# Altium footprint library QFP.PcbLib: 102 footprints (part 1 of 7)
Each footprint in its own frame and in the unit in brackets; x right, y up, seen from the top. Pads: shape width x height; smd on the part's side, far side on the other; paste and mask are expansions set on the pad; w line width, h text height; cw(c..) or ccw(c..) is an arc to the next point about the centre after c.
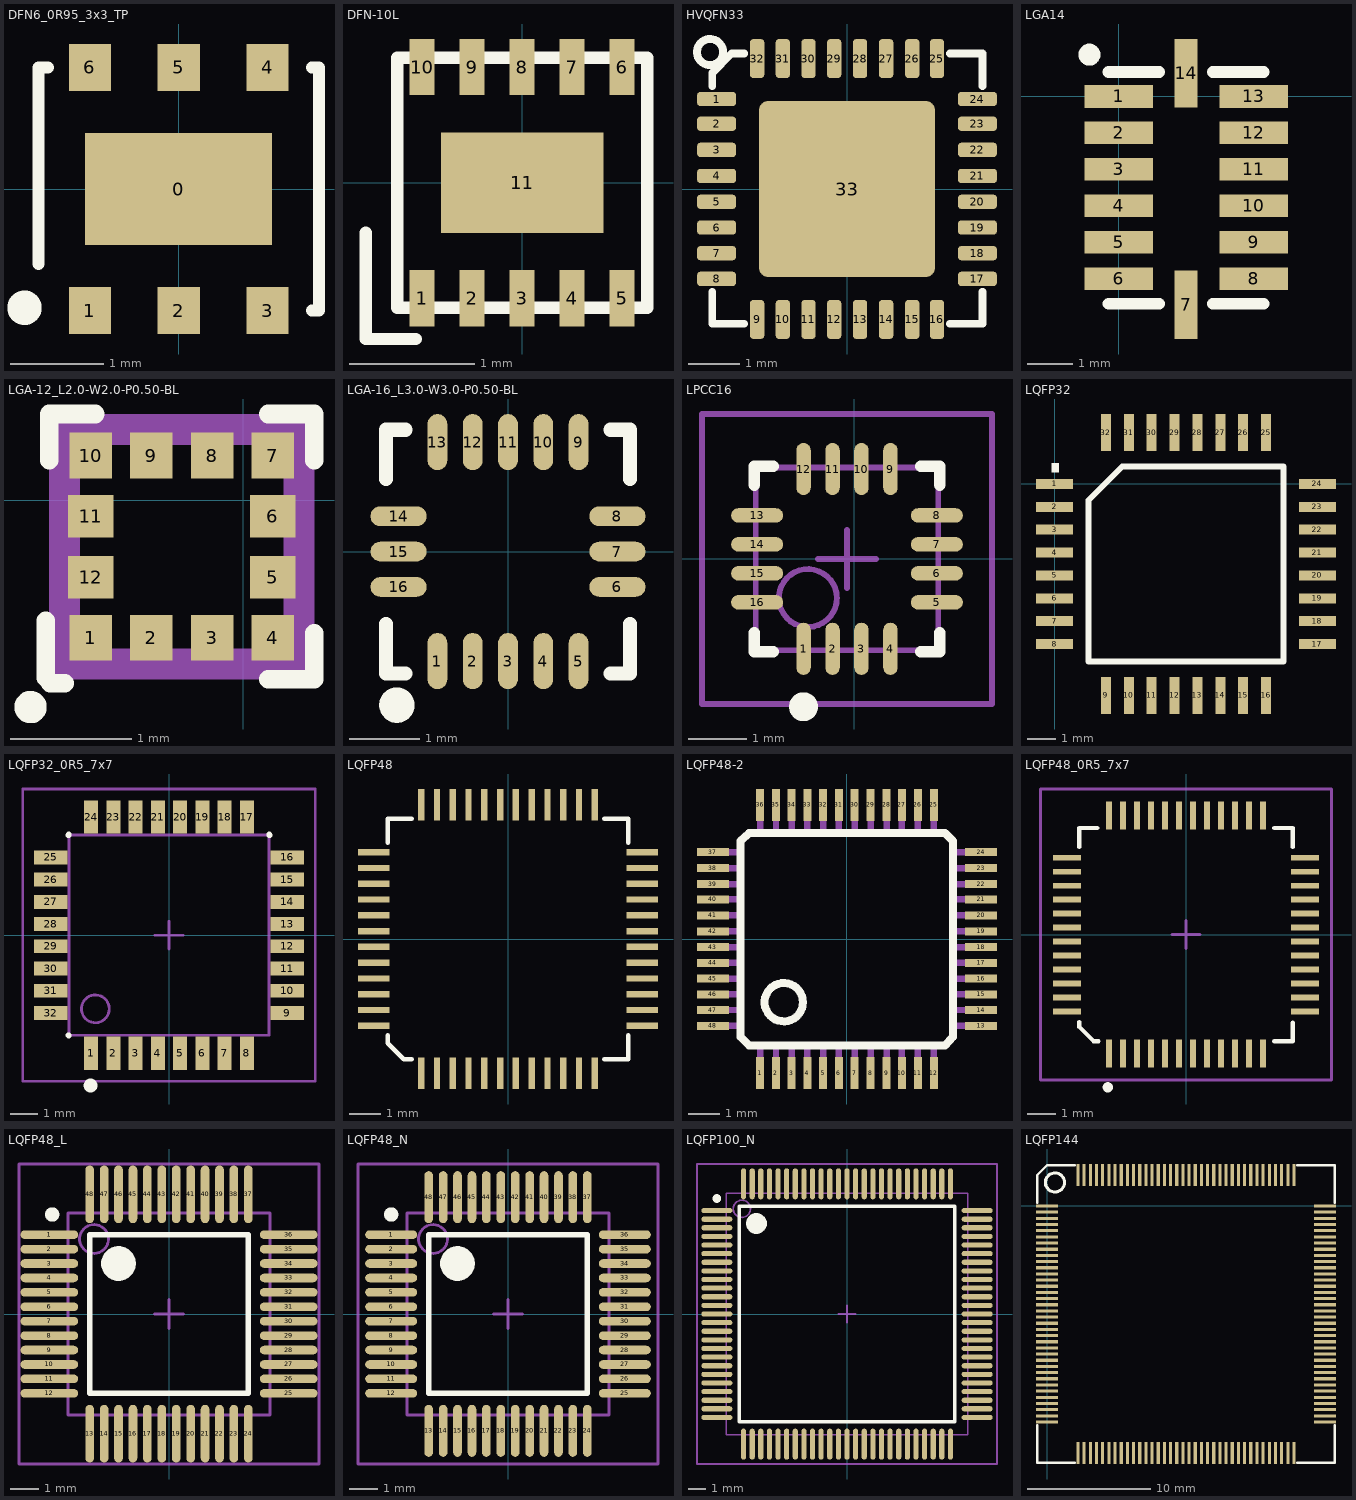
[diagram p0: the footprints below, top view; thin cyan lines are the x and y axes]

## DFN6_0R95_3x3_TP [mm] "500 mA low quiescent current and low noise voltage regulator"
height 1
pads (7):
  rect 2x1.2 smd: 0(0,0)
  rect 0.45x0.5 smd: 1(-0.95,-1.3) 2(0,-1.3) 3(0.95,-1.3) 4(0.95,1.3) 5(0,1.3) 6(-0.95,1.3)
Top Overlay:
  circle w0.25: c-1.649,-1.27 r0.059
  lines w0.127: -1.5,-0.8 -1.5,1.3 -1.397,1.3 ; 1.422,-1.3 1.5,-1.3 1.5,1.3 1.422,1.3
3D body: height 1, standoff 0.05, extent -1.5,-1.5 1.5,1.5

## DFN-10L [mm]
pads (11):
  rect 0.2x0.45 smd: 1(-0.8,-0.925) 2(-0.4,-0.925) 3(0,-0.925) 4(0.4,-0.925) 5(0.8,-0.925) 6(0.8,0.925) 7(0.4,0.925) 8(0,0.925) 9(-0.4,0.925) 10(-0.8,0.925)
  rect 1.3x0.8 smd: 11(0,0)
Top Overlay:
  lines w0.1: -1.25,-0.4 -1.25,-1.25 -0.85,-1.25 ; -1,-1 1,-1 1,1 -1,1 -1,-1

## HVQFN33 [mil] "HVQFN33"
pads (33):
  rrect50% 30x11 smd: 1(-100,69) 2(-100,50) 3(-100,30) 4(-100,10) 5(-100,-9.84) 6(-100,-29.53) 7(-100,-49.21) 8(-100,-68.9) 17(100,-68.9) 18(100,-49.21) 19(100,-29.53) 20(100,-9.84) 21(100,10) 22(100,30) 23(100,50) 24(100,69)
  rrect50% 11x30 smd: 9(-68.9,-100) 10(-49.21,-100) 11(-29.53,-100) 12(-9.84,-100) 13(10,-100) 14(30,-100) 15(50,-100) 16(69,-100) 25(69,100) 26(50,100) 27(30,100) 28(10,100) 29(-9.84,100) 30(-29.53,100) 31(-49.21,100) 32(-68.9,100)
  rrect10% 135x135 smd: 33(0,0)
Top Overlay:
  circle w6: c-105,105 r10
  lines w6: -103.35,-78.74 -103.35,-103.35 -78.74,-103.35 ; -103.35,79 -103.35,89 -88.35,104 -78.74,104 ; 79,-103.35 104,-103.35 104,-78.74 ; 79,104 104,104 104,79
Top Paste:
  rectangle: -15,-15 15,15
  rectangle: -55,25 -25,55
  rectangle: 25,25 55,55
  rectangle: -55,-55 -25,-25
  rectangle: 25,-55 55,-25
Mechanical 2:
Mechanical 4:

## LGA14 [mm]
pads (14):
  rect 1.5x0.5 smd: 1(0,0) 2(0,-0.8) 3(0,-1.6) 4(0,-2.4) 5(0,-3.2) 6(0,-4) 8(2.954,-4) 9(2.954,-3.2) 10(2.954,-2.4) 11(2.954,-1.6) 12(2.954,-0.8) 13(2.954,0)
  rect 0.5x1.5 smd: 7(1.473,-4.572) 14(1.473,0.508)
Top Overlay:
  circle w0.254: c-0.647,0.914 r0.114
  lines w0.254: -0.229,-4.547 0.889,-4.547 ; -0.229,0.533 0.889,0.533 ; 2.057,-4.547 3.175,-4.547 ; 2.057,0.533 3.175,0.533

## LGA-12_L2.0-W2.0-P0.50-BL [mm]
pads (12):
  rect 0.351x0.376 smd: 1(-1.258,-1.131) 2(-0.758,-1.131) 3(-0.258,-1.131) 4(0.242,-1.131) 7(0.242,0.369) 8(-0.258,0.369) 9(-0.758,0.369) 10(-1.258,0.369)
  rect 0.376x0.351 smd: 5(0.242,-0.631) 6(0.242,-0.131) 11(-1.258,-0.131) 12(-1.258,-0.631)
Top Overlay:
  circle w0.152: c-1.753,-1.702 r0.057
  lines w0.152: -1.626,-1.46 -1.626,-0.991 -1.626,-1.422 ; -1.6,0.33 -1.6,0.711 -1.219,0.711 ; -1.591,-1.507 -1.47,-1.507 ; 0.203,-1.473 0.584,-1.473 0.584,-1.092 ; 0.203,0.711 0.584,0.711 0.584,0.33
Mechanical 15:
  lines w0.254: -1.473,-1.346 0.457,-1.346 0.457,0.584 -1.473,0.584 -1.473,-1.346

## LGA-16_L3.0-W3.0-P0.50-BL [mm]
pads (16):
  oval 0.28x0.796 smd: 1(-1,-1.55) 2(-0.5,-1.55) 3(0,-1.55) 4(0.5,-1.55) 5(1,-1.55) 9(1,1.55) 10(0.5,1.55) 11(0,1.55) 12(-0.5,1.55) 13(-1,1.55)
  oval 0.796x0.28 smd: 6(1.55,-0.5) 7(1.55,0) 8(1.55,0.5) 14(-1.55,0.5) 15(-1.55,0) 16(-1.55,-0.5)
Top Overlay:
  lines w0.2: -1.725,-1.025 -1.725,-1.725 -1.45,-1.725 ; -1.725,1.025 -1.725,1.725 -1.45,1.725 ; 1.45,-1.725 1.725,-1.725 1.725,-1.025 ; 1.45,1.725 1.725,1.725 1.725,1.025
  lines w0.25: -1.575,-2.05 ccw(c-1.574,-2.175) -1.572,-2.05

## LPCC16 [mm]
pads (16):
  oval 0.25x0.9 smd: 1(-0.877,-1.55) 2(-0.377,-1.55) 3(0.123,-1.55) 4(0.623,-1.55) 9(0.623,1.55) 10(0.123,1.55) 11(-0.377,1.55) 12(-0.877,1.55)
  oval 0.9x0.25 smd: 5(1.423,-0.75) 6(1.423,-0.25) 7(1.423,0.25) 8(1.423,0.75) 13(-1.677,0.75) 14(-1.677,0.25) 15(-1.677,-0.25) 16(-1.677,-0.75)
Top Overlay:
  circle w0.25: c-0.877,-2.55 r0.125
  lines w0.2: -1.727,-1.275 -1.727,-1.6 -1.402,-1.6 ; -1.727,1.275 -1.727,1.6 -1.402,1.6 ; 1.148,-1.6 1.473,-1.6 1.473,-1.275 ; 1.148,1.6 1.473,1.6 1.473,1.275
Mechanical 13:
  circle w0.1: c-0.802,-0.675 r0.5
  lines w0.1: -1.702,-1.575 -1.702,1.575 1.448,1.575 1.448,-1.575 -1.702,-1.575
Mechanical 15:
  lines w0.1: -0.627,0 0.373,0 ; -0.127,-0.5 -0.127,0.5 ; -2.627,-2.5 -2.627,2.5 2.373,2.5 2.373,-2.5 -2.627,-2.5
3D body: height 0.8, standoff 0, extent -1.702,-1.575 1.448,1.575

## LQFP32 [mm] "7X7MM,9X9MM"
pads (32):
  rect 1.3x0.35 smd: 1(0,0) 2(0,-0.8) 3(0,-1.6) 4(0,-2.4) 5(0,-3.2) 6(0,-4) 7(0,-4.8) 8(0,-5.6) 17(9.2,-5.6) 18(9.2,-4.8) 19(9.2,-4) 20(9.2,-3.2) 21(9.2,-2.4) 22(9.2,-1.6) 23(9.2,-0.8) 24(9.2,0)
  rect 0.35x1.3 smd: 9(1.8,-7.4) 10(2.6,-7.4) 11(3.4,-7.4) 12(4.2,-7.4) 13(5,-7.4) 14(5.8,-7.4) 15(6.6,-7.4) 16(7.4,-7.4) 25(7.4,1.8) 26(6.6,1.8) 27(5.8,1.8) 28(5,1.8) 29(4.2,1.8) 30(3.4,1.8) 31(2.6,1.8) 32(1.8,1.8)
Top Overlay:
  rectangle: -0.102,0.406 0.152,0.737
  lines w0.2: 1.185,-6.215 8.015,-6.215 8.015,0.615 2.37,0.615 1.185,-0.57 1.185,-6.215

## LQFP32_0R5_7x7 [mm] "LQFP32 Recommended ,32 Pin MCU Size,7x7mm, Pitch, 0.8mm"
height 1.6
pads (32):
  rect 0.5x1.2 smd: 1(-2.8,-4.25) 2(-2,-4.25) 3(-1.2,-4.25) 4(-0.4,-4.25) 5(0.4,-4.25) 6(1.2,-4.25) 7(2,-4.25) 8(2.8,-4.25) 17(2.8,4.25) 18(2,4.25) 19(1.2,4.25) 20(0.4,4.25) 21(-0.4,4.25) 22(-1.2,4.25) 23(-2,4.25) 24(-2.8,4.25)
  rect 1.2x0.5 smd: 9(4.25,-2.8) 10(4.25,-2) 11(4.25,-1.2) 12(4.25,-0.4) 13(4.25,0.4) 14(4.25,1.2) 15(4.25,2) 16(4.25,2.8) 25(-4.25,2.8) 26(-4.25,2) 27(-4.25,1.2) 28(-4.25,0.4) 29(-4.25,-0.4) 30(-4.25,-1.2) 31(-4.25,-2) 32(-4.25,-2.8)
Top Overlay:
  circle w0.25: c-2.819,-5.408 r0.125
  lines w0.2: -3.625,-3.6 -3.6,-3.6 -3.6,-3.625 ; -3.625,3.6 -3.6,3.6 -3.6,3.625 ; 3.6,3.625 3.6,3.6 3.625,3.6
Mechanical 13:
  circle w0.1: c-2.65,-2.65 r0.5
  lines w0.1: -3.6,-3.6 -3.6,3.6 3.6,3.6 3.6,-3.6 -3.6,-3.6
Mechanical 15:
  lines w0.1: -0.5,0 0.5,0 ; 0,-0.5 0,0.5 ; -5.258,-5.258 -5.258,5.258 5.258,5.258 5.258,-5.258 -5.258,-5.258
3D body: height 1.6, standoff 0.05, extent -3.6,-3.6 3.6,3.6

## LQFP48 [mm]
pads (48):
  rect 0.2x1 smd: 1(-2.75,-4.25) 2(-2.25,-4.25) 3(-1.75,-4.25) 4(-1.25,-4.25) 5(-0.75,-4.25) 6(-0.25,-4.25) 7(0.25,-4.25) 8(0.75,-4.25) 9(1.25,-4.25) 10(1.75,-4.25) 11(2.25,-4.25) 12(2.75,-4.25) 25(2.75,4.25) 26(2.25,4.25) 27(1.75,4.25) 28(1.25,4.25) 29(0.75,4.25) 30(0.25,4.25) 31(-0.25,4.25) 32(-0.75,4.25) 33(-1.25,4.25) 34(-1.75,4.25) 35(-2.25,4.25) 36(-2.75,4.25)
  rect 1x0.2 smd: 13(4.25,-2.75) 14(4.25,-2.25) 15(4.25,-1.75) 16(4.25,-1.25) 17(4.25,-0.75) 18(4.25,-0.25) 19(4.25,0.25) 20(4.25,0.75) 21(4.25,1.25) 22(4.25,1.75) 23(4.25,2.25) 24(4.25,2.75) 37(-4.25,2.75) 38(-4.25,2.25) 39(-4.25,1.75) 40(-4.25,1.25) 41(-4.25,0.75) 42(-4.25,0.25) 43(-4.25,-0.25) 44(-4.25,-0.75) 45(-4.25,-1.25) 46(-4.25,-1.75) 47(-4.25,-2.25) 48(-4.25,-2.75)
Top Overlay:
  lines w0.152: -3.81,-3.048 -3.81,-3.302 -3.302,-3.81 -3.048,-3.81 ; -3.81,3.048 -3.81,3.81 -3.048,3.81 ; 3.048,-3.81 3.81,-3.81 3.81,-3.048 ; 3.048,3.81 3.81,3.81 3.81,3.048

## LQFP48-2 [mil] "LQFP48"
pads (48):
  rect 10x40 smd: 1(-108.27,-167.32) 2(-88.58,-167.32) 3(-68.9,-167.32) 4(-49.21,-167.32) 5(-29.53,-167.32) 6(-9.84,-167.32) 7(10,-167.32) 8(30,-167.32) 9(50,-167.32) 10(69,-167.32) 11(89,-167.32) 12(109,-167.32) 25(109,168) 26(89,168) 27(69,168) 28(50,168) 29(30,168) 30(10,168) 31(-9.84,168) 32(-29.53,168) 33(-49.21,168) 34(-68.9,168) 35(-88.58,168) 36(-108.27,168)
  rect 40x10 smd: 13(168,-108.27) 14(168,-88.58) 15(168,-68.9) 16(168,-49.21) 17(168,-29.53) 18(168,-9.84) 19(168,10) 20(168,30) 21(168,50) 22(168,69) 23(168,89) 24(168,109) 37(-167.32,109) 38(-167.32,89) 39(-167.32,69) 40(-167.32,50) 41(-167.32,30) 42(-167.32,10) 43(-167.32,-9.84) 44(-167.32,-29.53) 45(-167.32,-49.21) 46(-167.32,-68.9) 47(-167.32,-88.58) 48(-167.32,-108.27)
Top Overlay:
  circle w10: c-78.74,-78.74 r24
  lines w10: -132.87,-122.05 -122.05,-132.87 123,-132.87 133,-122.05 133,123 123,133 -122.05,133 -132.87,123 -132.87,-122.05
Mechanical 2:
Mechanical 4:
Mechanical 16:
  rectangle: -112.2,-177.17 -104.33,-135.83
  rectangle: -92.52,-177.17 -84.65,-135.83
  rectangle: -72.83,-177.17 -64.96,-135.83
  rectangle: -53.15,-177.17 -45.28,-135.83
  rectangle: -33.46,-177.17 -25.59,-135.83
  rectangle: -13.78,-177.17 -5.91,-135.83
  rectangle: 6,-177.17 14,-135.83
  rectangle: 26,-177.17 34,-135.83
  rectangle: 46,-177.17 54,-135.83
  rectangle: 65,-177.17 73,-135.83
  rectangle: 85,-177.17 93,-135.83
  rectangle: 105,-177.17 113,-135.83
  rectangle: 136,-112.2 178,-104.33
  rectangle: 136,-92.52 178,-84.65
  rectangle: 136,-72.83 178,-64.96
  rectangle: 136,-53.15 178,-45.28
  rectangle: 136,-33.46 178,-25.59
  rectangle: 136,-13.78 178,-5.91
  rectangle: 136,6 178,14
  rectangle: 136,26 178,34
  rectangle: 136,46 178,54
  rectangle: 136,65 178,73
  rectangle: 136,85 178,93
  rectangle: 136,105 178,113
  rectangle: 105,136 113,178
  rectangle: 85,136 93,178
  rectangle: 65,136 73,178
  rectangle: 46,136 54,178
  rectangle: 26,136 34,178
  rectangle: 6,136 14,178
  rectangle: -13.78,136 -5.91,178
  rectangle: -33.46,136 -25.59,178
  rectangle: -53.15,136 -45.28,178
  rectangle: -72.83,136 -64.96,178
  rectangle: -92.52,136 -84.65,178
  rectangle: -112.2,136 -104.33,178
  rectangle: -177.17,105 -135.83,113
  rectangle: -177.17,85 -135.83,93
  rectangle: -177.17,65 -135.83,73
  rectangle: -177.17,46 -135.83,54
  rectangle: -177.17,26 -135.83,34
  rectangle: -177.17,6 -135.83,14
  rectangle: -177.17,-13.78 -135.83,-5.91
  rectangle: -177.17,-33.46 -135.83,-25.59
  rectangle: -177.17,-53.15 -135.83,-45.28
  rectangle: -177.17,-72.83 -135.83,-64.96
  rectangle: -177.17,-92.52 -135.83,-84.65
  rectangle: -177.17,-112.2 -135.83,-104.33

## LQFP48_0R5_7x7 [mm] "Low & medium-density value line, advanced ARM-based 32-bit MCU"
height 1.6
pads (48):
  rect 0.2x1 smd: 1(-2.75,-4.25) 2(-2.25,-4.25) 3(-1.75,-4.25) 4(-1.25,-4.25) 5(-0.75,-4.25) 6(-0.25,-4.25) 7(0.25,-4.25) 8(0.75,-4.25) 9(1.25,-4.25) 10(1.75,-4.25) 11(2.25,-4.25) 12(2.75,-4.25) 25(2.75,4.25) 26(2.25,4.25) 27(1.75,4.25) 28(1.25,4.25) 29(0.75,4.25) 30(0.25,4.25) 31(-0.25,4.25) 32(-0.75,4.25) 33(-1.25,4.25) 34(-1.75,4.25) 35(-2.25,4.25) 36(-2.75,4.25)
  rect 1x0.2 smd: 13(4.25,-2.75) 14(4.25,-2.25) 15(4.25,-1.75) 16(4.25,-1.25) 17(4.25,-0.75) 18(4.25,-0.25) 19(4.25,0.25) 20(4.25,0.75) 21(4.25,1.25) 22(4.25,1.75) 23(4.25,2.25) 24(4.25,2.75) 37(-4.25,2.75) 38(-4.25,2.25) 39(-4.25,1.75) 40(-4.25,1.25) 41(-4.25,0.75) 42(-4.25,0.25) 43(-4.25,-0.25) 44(-4.25,-0.75) 45(-4.25,-1.25) 46(-4.25,-1.75) 47(-4.25,-2.25) 48(-4.25,-2.75)
Top Overlay:
  circle w0.25: c-2.792,-5.461 r0.059
  lines w0.152: -3.81,-3.124 -3.81,-3.302 -3.302,-3.81 -3.124,-3.81 ; -3.81,3.124 -3.81,3.81 -3.175,3.81 ; 3.15,-3.81 3.81,-3.81 3.81,-3.15 ; 3.15,3.81 3.81,3.81 3.81,3.124
Mechanical 15:
  lines w0.1: -0.5,0 0.5,0 ; 0,-0.5 0,0.5 ; -5.2,-5.2 -5.2,5.2 5.2,5.2 5.2,-5.2 -5.2,-5.2
3D body: height 1.6, standoff 0.15, extent -3.5,-3.5 3.5,3.5

## LQFP48_L [mm]
height 1
pads (48):
  oval 2x0.3 smd: 1(-4.15,2.75) 2(-4.15,2.25) 3(-4.15,1.75) 4(-4.15,1.25) 5(-4.15,0.75) 6(-4.15,0.25) 7(-4.15,-0.25) 8(-4.15,-0.75) 9(-4.15,-1.25) 10(-4.15,-1.75) 11(-4.15,-2.25) 12(-4.15,-2.75) 25(4.15,-2.75) 26(4.15,-2.25) 27(4.15,-1.75) 28(4.15,-1.25) 29(4.15,-0.75) 30(4.15,-0.25) 31(4.15,0.25) 32(4.15,0.75) 33(4.15,1.25) 34(4.15,1.75) 35(4.15,2.25) 36(4.15,2.75)
  oval 0.3x2 smd: 13(-2.75,-4.15) 14(-2.25,-4.15) 15(-1.75,-4.15) 16(-1.25,-4.15) 17(-0.75,-4.15) 18(-0.25,-4.15) 19(0.25,-4.15) 20(0.75,-4.15) 21(1.25,-4.15) 22(1.75,-4.15) 23(2.25,-4.15) 24(2.75,-4.15) 37(2.75,4.15) 38(2.25,4.15) 39(1.75,4.15) 40(1.25,4.15) 41(0.75,4.15) 42(0.25,4.15) 43(-0.25,4.15) 44(-0.75,4.15) 45(-1.25,4.15) 46(-1.75,4.15) 47(-2.25,4.15) 48(-2.75,4.15)
Top Overlay:
  circle w0.6: c-1.75,1.75 r0.3
  circle w0.25: c-4.05,3.45 r0.125
  lines w0.2: -2.75,-2.75 2.75,-2.75 2.75,2.75 -2.75,2.75 -2.75,-2.75
Mechanical 13:
  circle w0.1: c-2.6,2.6 r0.5
  lines w0.1: -3.5,-3.5 3.5,-3.5 3.5,3.5 -3.5,3.5 -3.5,-3.5
Mechanical 15:
  lines w0.1: -0.5,0 0.5,0 ; 0,-0.5 0,0.5 ; -5.2,-5.2 5.2,-5.2 5.2,5.2 -5.2,5.2 -5.2,-5.2
3D body: height 1.6, standoff 0, extent -3.5,-3.5 3.5,3.5

## LQFP48_N [mm]
pads (48):
  oval 1.8x0.3 smd: 1(-4.05,2.75) 2(-4.05,2.25) 3(-4.05,1.75) 4(-4.05,1.25) 5(-4.05,0.75) 6(-4.05,0.25) 7(-4.05,-0.25) 8(-4.05,-0.75) 9(-4.05,-1.25) 10(-4.05,-1.75) 11(-4.05,-2.25) 12(-4.05,-2.75) 25(4.05,-2.75) 26(4.05,-2.25) 27(4.05,-1.75) 28(4.05,-1.25) 29(4.05,-0.75) 30(4.05,-0.25) 31(4.05,0.25) 32(4.05,0.75) 33(4.05,1.25) 34(4.05,1.75) 35(4.05,2.25) 36(4.05,2.75)
  oval 0.3x1.8 smd: 13(-2.75,-4.05) 14(-2.25,-4.05) 15(-1.75,-4.05) 16(-1.25,-4.05) 17(-0.75,-4.05) 18(-0.25,-4.05) 19(0.25,-4.05) 20(0.75,-4.05) 21(1.25,-4.05) 22(1.75,-4.05) 23(2.25,-4.05) 24(2.75,-4.05) 37(2.75,4.05) 38(2.25,4.05) 39(1.75,4.05) 40(1.25,4.05) 41(0.75,4.05) 42(0.25,4.05) 43(-0.25,4.05) 44(-0.75,4.05) 45(-1.25,4.05) 46(-1.75,4.05) 47(-2.25,4.05) 48(-2.75,4.05)
Top Overlay:
  circle w0.25: c-4.05,3.45 r0.125
  circle w0.6: c-1.75,1.75 r0.3
  lines w0.2: -2.75,-2.75 -2.75,2.75 2.75,2.75 2.75,-2.75 -2.75,-2.75
Mechanical 13:
  circle w0.1: c-2.6,2.6 r0.5
  lines w0.1: -3.5,-3.5 -3.5,3.5 3.5,3.5 3.5,-3.5 -3.5,-3.5
Mechanical 15:
  lines w0.1: -0.5,0 0.5,0 ; 0,-0.5 0,0.5 ; -5.2,-5.2 -5.2,5.2 5.2,5.2 5.2,-5.2 -5.2,-5.2
3D body: height 1.6, standoff 0, extent -3.5,-3.5 3.5,3.5

## LQFP100_N [mm]
pads (100):
  oval 1.8x0.3 smd: 1(-7.55,6) 2(-7.55,5.5) 3(-7.55,5) 4(-7.55,4.5) 5(-7.55,4) 6(-7.55,3.5) 7(-7.55,3) 8(-7.55,2.5) 9(-7.55,2) 10(-7.55,1.5) 11(-7.55,1) 12(-7.55,0.5) 13(-7.55,0) 14(-7.55,-0.5) 15(-7.55,-1) 16(-7.55,-1.5) 17(-7.55,-2) 18(-7.55,-2.5) 19(-7.55,-3) 20(-7.55,-3.5) 21(-7.55,-4) 22(-7.55,-4.5) 23(-7.55,-5) 24(-7.55,-5.5) 25(-7.55,-6) 51(7.55,-6) 52(7.55,-5.5) 53(7.55,-5) 54(7.55,-4.5) 55(7.55,-4) 56(7.55,-3.5) 57(7.55,-3) 58(7.55,-2.5) 59(7.55,-2) 60(7.55,-1.5) 61(7.55,-1) 62(7.55,-0.5) 63(7.55,0) 64(7.55,0.5) 65(7.55,1) 66(7.55,1.5) 67(7.55,2) 68(7.55,2.5) 69(7.55,3) 70(7.55,3.5) 71(7.55,4) 72(7.55,4.5) 73(7.55,5) 74(7.55,5.5) 75(7.55,6)
  oval 0.3x1.8 smd: 26(-6,-7.55) 27(-5.5,-7.55) 28(-5,-7.55) 29(-4.5,-7.55) 30(-4,-7.55) 31(-3.5,-7.55) 32(-3,-7.55) 33(-2.5,-7.55) 34(-2,-7.55) 35(-1.5,-7.55) 36(-1,-7.55) 37(-0.5,-7.55) 38(0,-7.55) 39(0.5,-7.55) 40(1,-7.55) 41(1.5,-7.55) 42(2,-7.55) 43(2.5,-7.55) 44(3,-7.55) 45(3.5,-7.55) 46(4,-7.55) 47(4.5,-7.55) 48(5,-7.55) 49(5.5,-7.55) 50(6,-7.55) 76(6,7.55) 77(5.5,7.55) 78(5,7.55) 79(4.5,7.55) 80(4,7.55) 81(3.5,7.55) 82(3,7.55) 83(2.5,7.55) 84(2,7.55) 85(1.5,7.55) 86(1,7.55) 87(0.5,7.55) 88(0,7.55) 89(-0.5,7.55) 90(-1,7.55) 91(-1.5,7.55) 92(-2,7.55) 93(-2.5,7.55) 94(-3,7.55) 95(-3.5,7.55) 96(-4,7.55) 97(-4.5,7.55) 98(-5,7.55) 99(-5.5,7.55) 100(-6,7.55)
Top Overlay:
  circle w0.25: c-7.55,6.7 r0.125
  circle w0.6: c-5.25,5.25 r0.3
  lines w0.2: -6.25,-6.25 -6.25,6.25 6.25,6.25 6.25,-6.25 -6.25,-6.25
Mechanical 13:
  circle w0.1: c-6.1,6.1 r0.5
  lines w0.1: -7,-7 -7,7 7,7 7,-7 -7,-7
Mechanical 15:
  lines w0.1: -0.5,0 0.5,0 ; 0,-0.5 0,0.5 ; -8.7,-8.7 -8.7,8.7 8.7,8.7 8.7,-8.7 -8.7,-8.7
3D body: height 1.6, standoff 0, extent -7,-6.888 7,7.112

## LQFP144 [mm]
pads (144):
  rect 1.8x0.254 smd: 1(-0.009,0.001) 2(-0.009,-0.499) 3(-0.009,-0.999) 4(-0.009,-1.499) 5(-0.009,-1.999) 6(-0.009,-2.499) 7(-0.009,-2.999) 8(-0.009,-3.499) 9(-0.009,-3.999) 10(-0.009,-4.499) 11(-0.009,-4.999) 12(-0.009,-5.499) 13(-0.009,-5.999) 14(-0.009,-6.499) 15(-0.009,-6.999) 16(-0.009,-7.499) 17(-0.009,-7.999) 18(-0.009,-8.499) 19(-0.009,-8.999) 20(-0.009,-9.499) 21(-0.009,-9.999) 22(-0.009,-10.499) 23(-0.009,-10.999) 24(-0.009,-11.499) 25(-0.009,-11.999) 26(-0.009,-12.499) 27(-0.009,-12.999) 28(-0.009,-13.499) 29(-0.009,-13.999) 30(-0.009,-14.499) 31(-0.009,-14.999) 32(-0.009,-15.499) 33(-0.009,-15.999) 34(-0.009,-16.499) 35(-0.009,-16.999) 36(-0.009,-17.499) 73(22.491,-17.499) 74(22.491,-16.999) 75(22.491,-16.499) 76(22.491,-15.999) 77(22.491,-15.499) 78(22.491,-14.999) 79(22.491,-14.499) 80(22.491,-13.999) 81(22.491,-13.499) 82(22.491,-12.999) 83(22.491,-12.499) 84(22.491,-11.999) 85(22.491,-11.499) 86(22.491,-10.999) 87(22.491,-10.499) 88(22.491,-9.999) 89(22.491,-9.499) 90(22.491,-8.999) 91(22.491,-8.499) 92(22.491,-7.999) 93(22.491,-7.499) 94(22.491,-6.999) 95(22.491,-6.499) 96(22.491,-5.999) 97(22.491,-5.499) 98(22.491,-4.999) 99(22.491,-4.499) 100(22.491,-3.999) 101(22.491,-3.499) 102(22.491,-2.999) 103(22.491,-2.499) 104(22.491,-1.999) 105(22.491,-1.499) 106(22.491,-0.999) 107(22.491,-0.499) 108(22.491,0.001)
  rect 0.254x1.8 smd: 37(2.491,-19.999) 38(2.991,-19.999) 39(3.491,-19.999) 40(3.991,-19.999) 41(4.491,-19.999) 42(4.991,-19.999) 43(5.491,-19.999) 44(5.991,-19.999) 45(6.491,-19.999) 46(6.991,-19.999) 47(7.491,-19.999) 48(7.991,-19.999) 49(8.491,-19.999) 50(8.991,-19.999) 51(9.491,-19.999) 52(9.991,-19.999) 53(10.491,-19.999) 54(10.991,-19.999) 55(11.491,-19.999) 56(11.991,-19.999) 57(12.491,-19.999) 58(12.991,-19.999) 59(13.491,-19.999) 60(13.991,-19.999) 61(14.491,-19.999) 62(14.991,-19.999) 63(15.491,-19.999) 64(15.991,-19.999) 65(16.491,-19.999) 66(16.991,-19.999) 67(17.491,-19.999) 68(17.991,-19.999) 69(18.491,-19.999) 70(18.991,-19.999) 71(19.491,-19.999) 72(19.991,-19.999) 109(19.991,2.501) 110(19.491,2.501) 111(18.991,2.501) 112(18.491,2.501) 113(17.991,2.501) 114(17.491,2.501) 115(16.991,2.501) 116(16.491,2.501) 117(15.991,2.501) 118(15.491,2.501) 119(14.991,2.501) 120(14.491,2.501) 121(13.991,2.501) 122(13.491,2.501) 123(12.991,2.501) 124(12.491,2.501) 125(11.991,2.501) 126(11.491,2.501) 127(10.991,2.501) 128(10.491,2.501) 129(9.991,2.501) 130(9.491,2.501) 131(8.991,2.501) 132(8.491,2.501) 133(7.991,2.501) 134(7.491,2.501) 135(6.991,2.501) 136(6.491,2.501) 137(5.991,2.501) 138(5.491,2.501) 139(4.991,2.501) 140(4.491,2.501) 141(3.991,2.501) 142(3.491,2.501) 143(2.991,2.501) 144(2.491,2.501)
Top Overlay:
  circle w0.254: c0.624,1.905 r0.773
  lines w0.2: -0.809,-17.749 -0.809,-20.799 2.241,-20.799 ; -0.809,0.251 -0.809,2.501 -0.009,3.301 2.241,3.301 ; 20.241,-20.799 23.291,-20.799 23.291,-17.749 ; 20.241,3.301 23.291,3.301 23.291,0.251